# EAGLE library part NOKIA5110 (library skydrop)
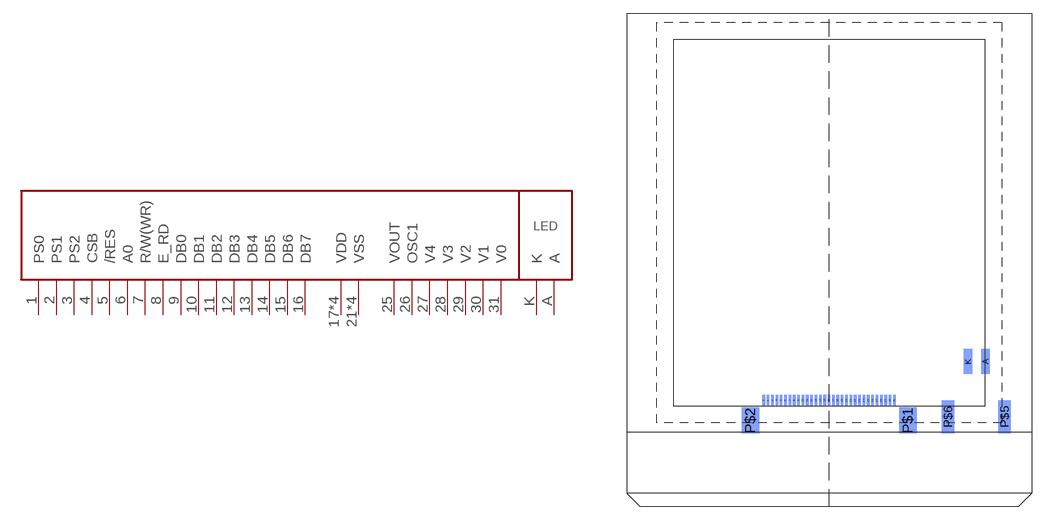
[diagram p2: symbol with the pads of NOKIA5110; footprint NOKIA5110]

Designator prefix -

## NOKIA5110  [NOKIA5110]
1  PS0
2  PS1
3  PS2
4  CSB
5  /RES
6  A0
7  R/W(WR)
8  E_RD
9  DB0
10  DB1
11  DB2
12  DB3
13  DB4
14  DB5
15  DB6
16  DB7
17  VDD
18  VDD
19  VDD
20  VDD
21  VSS
22  VSS
23  VSS
24  VSS
25  VOUT
26  OSC1
27  V4
28  V3
29  V2
30  V1
31  V0
A  A
K  K

## Footprint NOKIA5110 (pad centres in mm)
smd 0.3 x 1.25 bottom: 1 16.65,13; 2 17.15,13; 3 17.65,13; 4 18.15,13; 5 18.65,13; 6 19.15,13; 7 19.65,13; 8 20.15,13; 9 20.65,13; 10 21.15,13; 11 21.65,13; 12 22.15,13; 13 22.65,13; 14 23.15,13; 15 23.65,13; 16 24.15,13; 17 24.65,13; 18 25.15,13; 19 25.65,13; 20 26.15,13; 21 26.65,13; 22 27.15,13; 23 27.65,13; 24 28.15,13; 25 28.65,13; 26 29.15,13; 27 29.65,13; 28 30.15,13; 29 30.65,13; 30 31.15,13; 31 31.65,13
smd 1 x 2.85 bottom: A 42.1,17.45; K 40.1,17.45
smd 2 x 3 bottom: P$1 33.19,10.68; P$2 15.11,10.68
smd 1.4 x 3.8 bottom: P$5 44.3,11.1; P$6 37.8,11.1